# Altium footprint library 轻触按键.PcbLib: 22 footprints (part 1 of 2)
Each footprint in its own frame and in the unit in brackets; x right, y up, seen from the top. Pads: shape width x height; smd on the part's side, far side on the other; paste and mask are expansions set on the pad; w line width, h text height; cw(c..) or ccw(c..) is an arc to the next point about the centre after c.
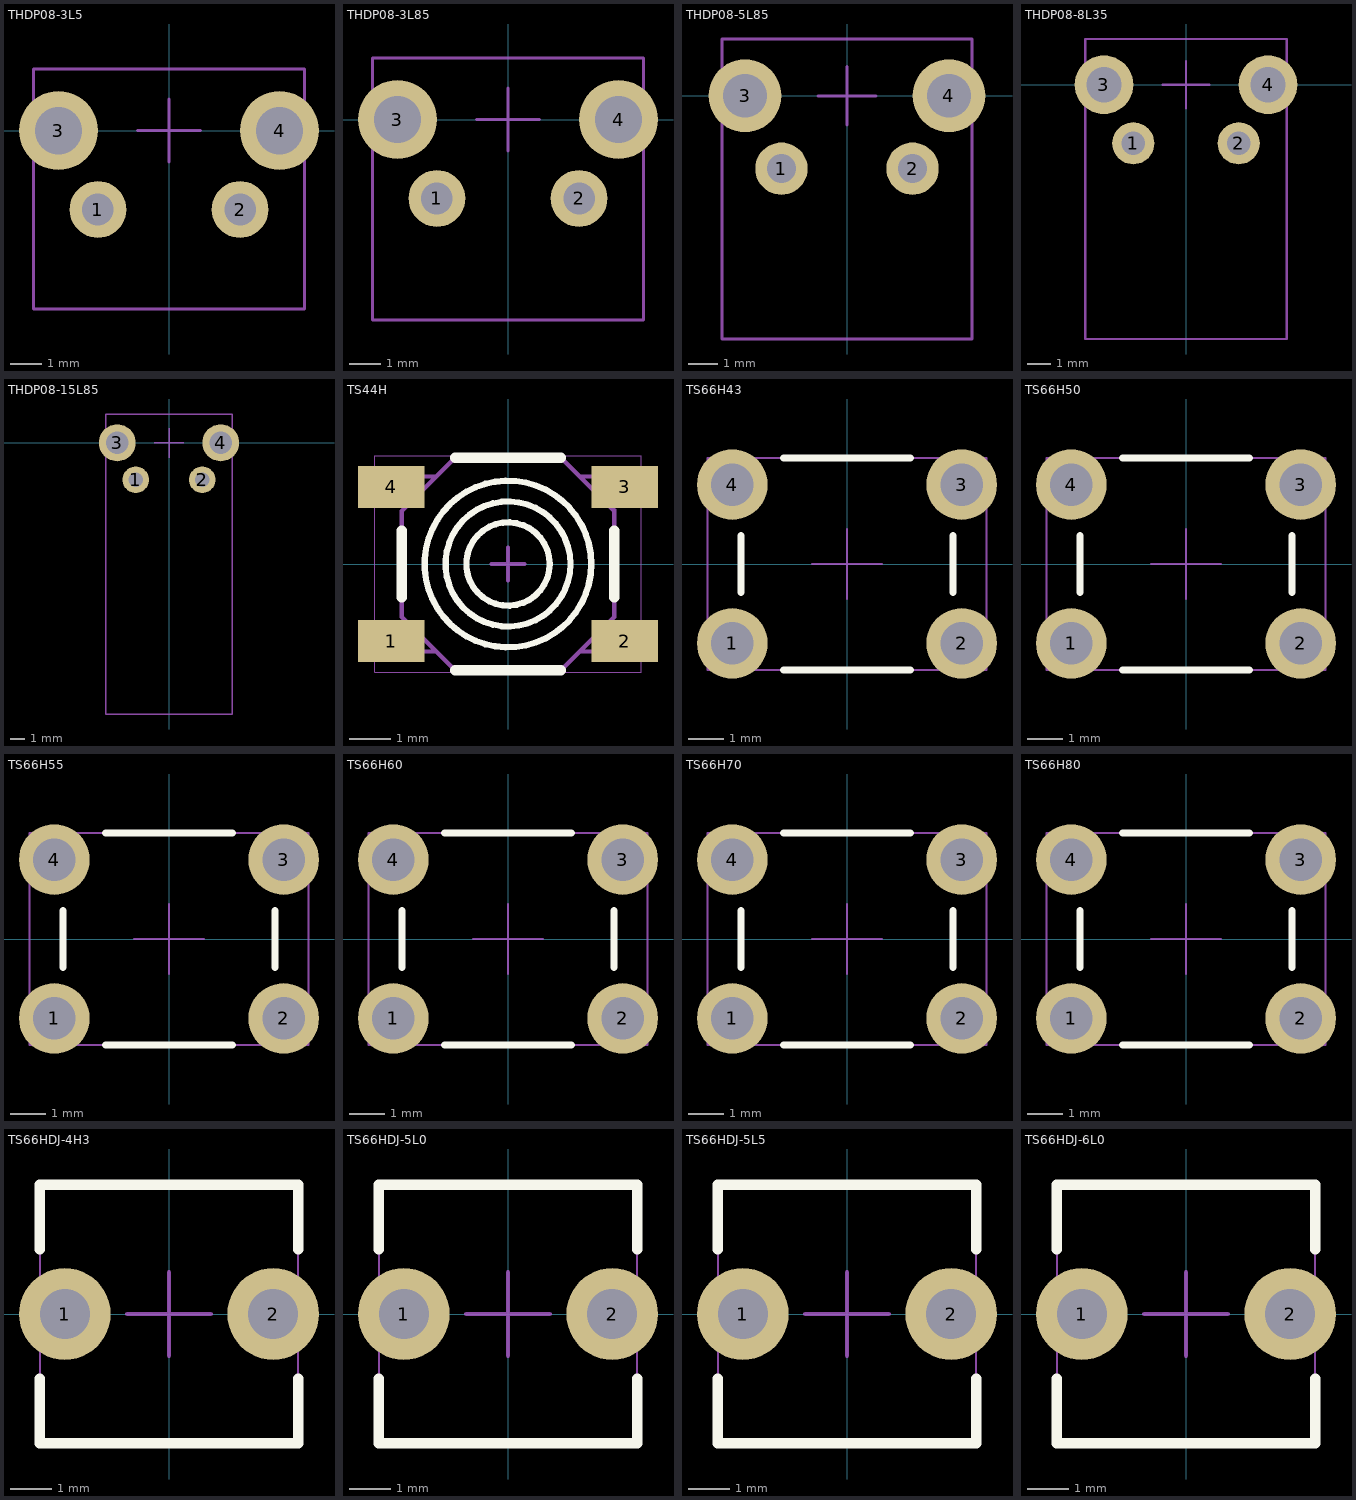
[diagram p0: the footprints below, top view; thin cyan lines are the x and y axes]

## THDP08-3L5 [mm] "立式金属支架6X6按键"
height 7.1
pads (4):
  round 1.8 hole 1 unplated: 1(-2.25,-2.5) 2(2.25,-2.5)
  round 2.5 hole 1.5 unplated: 3(-3.5,0) 4(3.5,0)
Mechanical 13:
  lines w0.1: -4.294,-5.65 4.294,-5.65 4.294,1.95 -4.294,1.95 -4.294,-5.65
Mechanical 15:
  lines w0.1: -1,0 1,0 ; 0,-1 0,1
3D body: height 7.35, standoff -3.2, extent -4.294,-5.65 4.294,1.95

## THDP08-3L85 [mm] "立式金属支架6X6按键"
height 7.1
pads (4):
  round 1.8 hole 1 unplated: 1(-2.25,-2.5) 2(2.25,-2.5)
  round 2.5 hole 1.5 unplated: 3(-3.5,0) 4(3.5,0)
Mechanical 13:
  lines w0.1: -4.294,-6.35 -4.294,1.95 4.294,1.95 4.294,-6.35 -4.294,-6.35
Mechanical 15:
  lines w0.1: -1,0 1,0 ; 0,-1 0,1
3D body: height 7.35, standoff -3.2, extent -4.294,-6.35 4.294,1.95

## THDP08-5L85 [mm] "立式金属支架6X6按键"
height 7.1
pads (4):
  round 1.8 hole 1 unplated: 1(-2.25,-2.5) 2(2.25,-2.5)
  round 2.5 hole 1.5 unplated: 3(-3.5,0) 4(3.5,0)
Mechanical 13:
  lines w0.1: -4.294,-8.35 4.294,-8.35 4.294,1.95 -4.294,1.95 -4.294,-8.35
Mechanical 15:
  lines w0.1: -1,0 1,0 ; 0,-1 0,1
3D body: height 7.35, standoff -3.2, extent -4.294,-8.35 4.294,1.95

## THDP08-8L35 [mm] "立式金属支架6X6按键"
height 7.1
pads (4):
  round 1.8 hole 1 unplated: 1(-2.25,-2.5) 2(2.25,-2.5)
  round 2.5 hole 1.5 unplated: 3(-3.5,0) 4(3.5,0)
Mechanical 13:
  lines w0.1: -4.294,-10.85 -4.294,1.95 4.294,1.95 4.294,-10.85 -4.294,-10.85
Mechanical 15:
  lines w0.1: -1,0 1,0 ; 0,-1 0,1
3D body: height 7.35, standoff -3.2, extent -4.294,-10.85 4.294,1.95

## THDP08-15L85 [mm] "立式金属支架6X6按键"
height 7.1
pads (4):
  round 1.8 hole 1 unplated: 1(-2.25,-2.5) 2(2.25,-2.5)
  round 2.5 hole 1.5 unplated: 3(-3.5,0) 4(3.5,0)
Mechanical 13:
  lines w0.1: -4.294,-18.35 4.294,-18.35 4.294,1.95 -4.294,1.95 -4.294,-18.35
Mechanical 15:
  lines w0.1: -1,0 1,0 ; 0,-1 0,1
3D body: height 7.35, standoff -3.2, extent -4.294,-18.35 4.294,1.95

## TS44H [mm] "5X5轻触按键"
height 1.5
pads (4):
  rect 1.6x1 smd: 1(-2.8,-1.85) 2(2.8,-1.85) 3(2.8,1.85) 4(-2.8,1.85)
Top Overlay:
  circle w0.15: c0,0 r1
  circle w0.15: c0,0 r1.5
  circle w0.15: c0,0 r2
  lines w0.254: -2.55,-0.8 -2.55,0.8 ; -1.27,-2.55 1.27,-2.55 ; -1.27,2.55 1.27,2.55 ; 2.55,-0.8 2.55,0.8
Mechanical 13:
  lines w0.02: -3.204,-2.6 -3.204,2.6 3.196,2.6 3.196,-2.6 -3.204,-2.6
Mechanical 15:
  lines w0.1: -2.221,-1.6 -3.2,-1.6 -3.2,-2.1 -1.719,-2.1 ; -2.221,1.6 -3.2,1.6 -3.2,2.1 -1.719,2.1 ; -0.4,0 0.4,0 ; 0,-0.4 0,0.4 ; 1.719,-2.1 3.2,-2.1 3.2,-1.6 2.221,-1.6 ; 1.719,2.1 3.2,2.1 3.2,1.6 2.221,1.6 ; 2.55,1.27 1.27,2.55 -1.27,2.55 -2.55,1.27 -2.55,-1.27 -1.27,-2.55 1.27,-2.55 2.55,-1.27 2.55,1.295
3D body: height 1.5, standoff 0, extent -3.204,-2.6 3.196,2.6

## TS66H43 [mm] "6*6插脚型轻触按键"
height 4.3
pads (4):
  round 2 hole 1.2: 1(-3.25,-2.25) 2(3.25,-2.25) 3(3.25,2.25) 4(-3.25,2.25)
Top Overlay:
  lines w0.2: -3,-0.8 -3,0.8 ; -1.8,-3 1.8,-3 ; -1.8,3 1.8,3 ; 3,-0.8 3,0.8
Mechanical 13:
  lines w0.05: -3.95,-3.003 3.95,-3.003 3.95,3.003 -3.95,3.003 -3.95,-3.003
Mechanical 15:
  lines w0.05: -1,0 1,0 ; 0,-1 0,1
3D body: height 4.5, standoff -3.3, extent -3.95,-3.002 3.95,3.003

## TS66H50 [mm] "6*6插脚型轻触按键"
height 5
pads (4):
  round 2 hole 1.2: 1(-3.25,-2.25) 2(3.25,-2.25) 3(3.25,2.25) 4(-3.25,2.25)
Top Overlay:
  lines w0.2: -3,-0.8 -3,0.8 ; -1.8,-3 1.8,-3 ; -1.8,3 1.8,3 ; 3,-0.8 3,0.8
Mechanical 13:
  lines w0.05: -3.95,-3.003 -3.95,3.003 3.95,3.003 3.95,-3.003 -3.95,-3.003
Mechanical 15:
  lines w0.05: -1,0 1,0 ; 0,-1 0,1
3D body: height 5.2, standoff -3.3, extent -3.95,-3.002 3.95,2.997

## TS66H55 [mm] "6*6插脚型轻触按键"
height 5.5
pads (4):
  round 2 hole 1.2: 1(-3.25,-2.25) 2(3.25,-2.25) 3(3.25,2.25) 4(-3.25,2.25)
Top Overlay:
  lines w0.2: -3,-0.8 -3,0.8 ; -1.8,-3 1.8,-3 ; -1.8,3 1.8,3 ; 3,-0.8 3,0.8
Mechanical 13:
  lines w0.05: -3.95,-3.003 3.95,-3.003 3.95,3.003 -3.95,3.003 -3.95,-3.003
Mechanical 15:
  lines w0.05: -1,0 1,0 ; 0,-1 0,1
3D body: height 5.7, standoff -3.3, extent -3.95,-3.002 3.95,2.997

## TS66H60 [mm] "6*6插脚型轻触按键"
height 6
pads (4):
  round 2 hole 1.2: 1(-3.25,-2.25) 2(3.25,-2.25) 3(3.25,2.25) 4(-3.25,2.25)
Top Overlay:
  lines w0.2: -3,-0.8 -3,0.8 ; -1.8,-3 1.8,-3 ; -1.8,3 1.8,3 ; 3,-0.8 3,0.8
Mechanical 13:
  lines w0.05: -3.95,-3.003 -3.95,3.003 3.95,3.003 3.95,-3.003 -3.95,-3.003
Mechanical 15:
  lines w0.05: -1,0 1,0 ; 0,-1 0,1
3D body: height 6.2, standoff -3.3, extent -3.95,-3.002 3.95,2.997

## TS66H70 [mm] "6*6插脚型轻触按键"
height 7
pads (4):
  round 2 hole 1.2: 1(-3.25,-2.25) 2(3.25,-2.25) 3(3.25,2.25) 4(-3.25,2.25)
Top Overlay:
  lines w0.2: -3,-0.8 -3,0.8 ; -1.8,-3 1.8,-3 ; -1.8,3 1.8,3 ; 3,-0.8 3,0.8
Mechanical 13:
  lines w0.05: -3.95,-3.003 3.95,-3.003 3.95,3.003 -3.95,3.003 -3.95,-3.003
Mechanical 15:
  lines w0.05: -1,0 1,0 ; 0,-1 0,1
3D body: height 7.2, standoff -3.3, extent -3.95,-3.002 3.95,2.997

## TS66H80 [mm] "6*6插脚型轻触按键"
height 8
pads (4):
  round 2 hole 1.2: 1(-3.25,-2.25) 2(3.25,-2.25) 3(3.25,2.25) 4(-3.25,2.25)
Top Overlay:
  lines w0.2: -3,-0.8 -3,0.8 ; -1.8,-3 1.8,-3 ; -1.8,3 1.8,3 ; 3,-0.8 3,0.8
Mechanical 13:
  lines w0.05: -3.95,-3.003 3.95,-3.003 3.95,3.003 -3.95,3.003 -3.95,-3.003
Mechanical 15:
  lines w0.05: -1,0 1,0 ; 0,-1 0,1
3D body: height 8.2, standoff -3.3, extent -3.95,-3.002 3.95,2.997

## TS66HDJ-4H3 [mm] "6*6短两脚轻触按键"
height 4.3
pads (2):
  round 2.2 hole 1.2 unplated: 1(-2.5,0) 2(2.5,0)
Top Overlay:
  lines w0.25: -3.1,-1.55 -3.1,-3.1 3.1,-3.1 3.1,-1.55 ; -3.1,1.55 -3.1,3.1 3.1,3.1 3.1,1.55
Mechanical 13:
  lines w0.05: -3.1,-3.1 -3.1,3.1 3.1,3.1 3.1,-3.1 -3.1,-3.1
Mechanical 15:
  lines w0.1: -1,0 1,0 ; 0,-1 0,1
3D body: height 4.4, standoff -3.6, extent -3.1,-3.105 3.1,3.1

## TS66HDJ-5L0 [mm] "6*6短两脚轻触按键"
height 5
pads (2):
  round 2.2 hole 1.2 unplated: 1(-2.5,0) 2(2.5,0)
Top Overlay:
  lines w0.25: -3.1,-1.55 -3.1,-3.1 3.1,-3.1 3.1,-1.55 ; -3.1,1.55 -3.1,3.1 3.1,3.1 3.1,1.55
Mechanical 13:
  lines w0.05: -3.1,-3.1 3.1,-3.1 3.1,3.1 -3.1,3.1 -3.1,-3.1
Mechanical 15:
  lines w0.1: -1,0 1,0 ; 0,-1 0,1
3D body: height 5, standoff -3.7, extent -3.1,-3.1 3.1,3.1

## TS66HDJ-5L5 [mm] "6*6短两脚轻触按键"
height 5.5
pads (2):
  round 2.2 hole 1.2 unplated: 1(-2.5,0) 2(2.5,0)
Top Overlay:
  lines w0.25: -3.1,-1.55 -3.1,-3.1 3.1,-3.1 3.1,-1.55 ; -3.1,1.55 -3.1,3.1 3.1,3.1 3.1,1.55
Mechanical 13:
  lines w0.05: -3.1,-3.1 3.1,-3.1 3.1,3.1 -3.1,3.1 -3.1,-3.1
Mechanical 15:
  lines w0.1: -1,0 1,0 ; 0,-1 0,1
3D body: height 5.5, standoff -3.7, extent -3.1,-3.1 3.1,3.1

## TS66HDJ-6L0 [mm] "6*6短两脚轻触按键"
height 6
pads (2):
  round 2.2 hole 1.2 unplated: 1(-2.5,0) 2(2.5,0)
Top Overlay:
  lines w0.25: -3.1,-1.55 -3.1,-3.1 3.1,-3.1 3.1,-1.55 ; -3.1,1.55 -3.1,3.1 3.1,3.1 3.1,1.55
Mechanical 13:
  lines w0.05: -3.1,-3.1 3.1,-3.1 3.1,3.1 -3.1,3.1 -3.1,-3.1
Mechanical 15:
  lines w0.1: -1,0 1,0 ; 0,-1 0,1
3D body: height 6, standoff -3.7, extent -3.1,-3.1 3.1,3.1